# Altium footprint library AudioParts.PcbLib: 6 footprints
Each footprint in its own frame and in the unit in brackets; x right, y up, seen from the top. Pads: shape width x height; smd on the part's side, far side on the other; paste and mask are expansions set on the pad; w line width, h text height; cw(c..) or ccw(c..) is an arc to the next point about the centre after c.
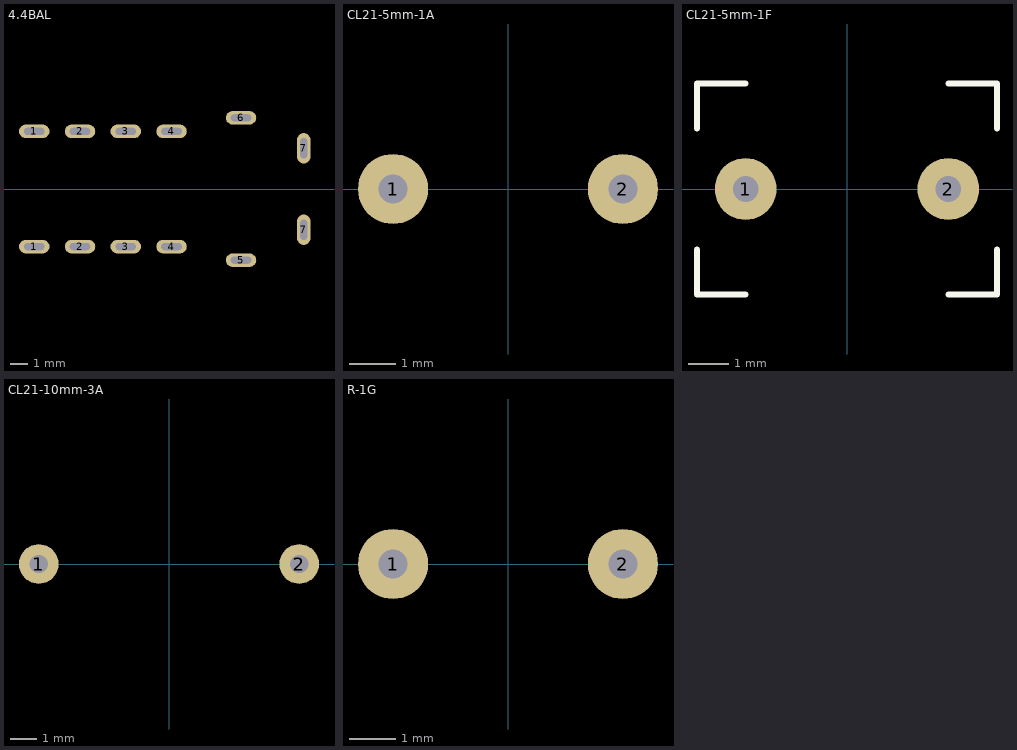
[diagram p0: the footprints below, top view; thin cyan lines are the x and y axes]

## 4.4BAL [mm]
pads (12):
  oval 1.8x0.8 hole 0.4 slot 1.2 at 0 deg: 1(5.1,-3.4) 1(5.1,3.4) 2(7.8,-3.4) 2(7.8,3.4) 3(10.5,-3.4) 3(10.5,3.4) 4(13.2,-3.4) 4(13.2,3.4) 5(17.3,-4.2) 6(17.3,4.2)
  oval 0.8x1.8 hole 0.4 slot 1.2 at 90 deg: 7(21,-2.4) 7(21,2.4)
3D body: height 6.4, standoff 0, extent 15.5,-5 19,5
3D body: height 6.4, standoff 0, extent 3.5,-4.2 22,4.2

## CL21-5mm-1A [mil]
pads (2):
  round 60 hole 25: 1(-98.43,0) 2(98.43,0)
3D body: height 393.7, standoff 0, extent -141.73,-47.24 141.73,47.24

## CL21-5mm-1F [mil]
pads (2):
  round 60 hole 25: 1(-98.43,0) 2(98.43,0)
Top Overlay:
  lines w6: -145.67,-59.06 -145.67,-102.36 -98.43,-102.36 ; -145.67,59.06 -145.67,102.36 -98.43,102.36 ; 98.43,-102.36 145.67,-102.36 145.67,-59.06 ; 98.43,102.36 145.67,102.36 145.67,59.06
3D body: height 393.7, standoff 0, extent -141.73,-98.43 141.73,98.43

## CL21-10mm-3A [mm]
pads (2):
  round 1.524 hole 0.7: 1(-5,0) 2(5,0)
3D body: height 10, standoff 0, extent -6.5,-1.5 6.5,1.5

## PJ393 [mm]

## R-1G [mil]
pads (2):
  round 60 hole 25: 1(-98.43,0) 2(98.43,0)
3D body: height 393.7, standoff 0, extent -141.73,-47.24 141.73,47.24